# Altium schematic symbol library ATF13-2P-BM03.SchLib: 1 symbol
Pins are listed as number, name and electrical type; pins without a type are passive.

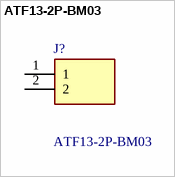
[diagram p0: symbol ATF13-2P-BM03]

## ATF13-2P-BM03
designator J?
Board Mount Header, Right Angle, AT, 2 Pin, Snap Fit, Tin plate; Manufacturer_Name: Amphenol Sine Systems; Geometry.Height: 18mm; Mouser Part Number: 654-ATF13-2P-BM03; Mouser Price/Stock: https://www.mouser.co.uk/ProductDetail/Amphenol-SINE-Systems/ATF13-2P-BM03?qs=%252B6g0mu59x7L1fHh%252BF9ugjw%3D%3D; Manufacturer_Part_Number: ATF13-2P-BM03; Datasheet Link: https://www.amphenol-sine.com/pdf/datasheet/ATF13-2P-BM03.pdf
footprint ATF132PBM03
pins: 1, 2